# Altium footprint library Allegro - Packages.PcbLib: 2 footprints
Each footprint in its own frame and in the unit in brackets; x right, y up, seen from the top. Pads: shape width x height; smd on the part's side, far side on the other; paste and mask are expansions set on the pad; w line width, h text height; cw(c..) or ccw(c..) is an arc to the next point about the centre after c.
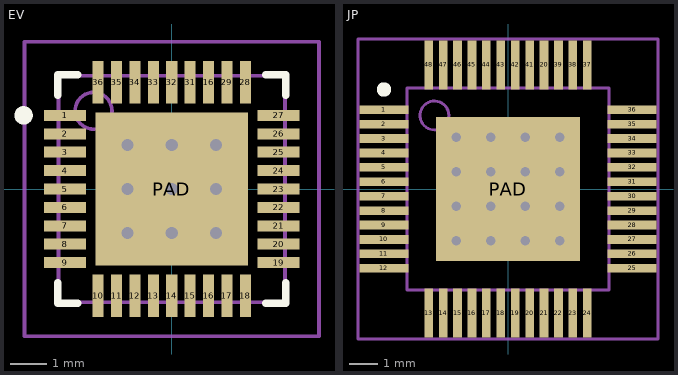
[diagram p0: the footprints below, top view; thin cyan lines are the x and y axes]

## EV [mm] "QFN, 36-Leads, exposed thermal pad"
height 1
pads (37):
  rect 1.15x0.3 smd: 1(-2.9,2) 2(-2.9,1.5) 3(-2.9,1) 4(-2.9,0.5) 5(-2.9,0) 6(-2.9,-0.5) 7(-2.9,-1) 8(-2.9,-1.5) 9(-2.9,-2) 19(2.9,-2) 20(2.9,-1.5) 21(2.9,-1) 22(2.9,-0.5) 23(2.9,0) 24(2.9,0.5) 25(2.9,1) 26(2.9,1.5) 27(2.9,2)
  rect 0.3x1.15 smd: 10(-2,-2.9) 11(-1.5,-2.9) 12(-1,-2.9) 13(-0.5,-2.9) 14(0,-2.9) 15(0.5,-2.9) 16(1,-2.9) 16(1,2.9) 17(1.5,-2.9) 18(2,-2.9) 28(2,2.9) 29(1.5,2.9) 31(0.5,2.9) 32(0,2.9) 33(-0.5,2.9) 34(-1,2.9) 35(-1.5,2.9) 36(-2,2.9)
  rect 4.15x4.15 smd: PAD(0,0)
via -1.2,1.2 diameter 0.66 hole 0.33
via 0,1.2 diameter 0.66 hole 0.33
via 1.2,1.2 diameter 0.66 hole 0.33
via -1.2,0 diameter 0.66 hole 0.33
via 0,0 diameter 0.66 hole 0.33
via 1.2,0 diameter 0.66 hole 0.33
via -1.2,-1.2 diameter 0.66 hole 0.33
via 0,-1.2 diameter 0.66 hole 0.33
via 1.2,-1.2 diameter 0.66 hole 0.33
Top Overlay:
  circle w0.25: c-4.025,2 r0.125
  lines w0.2: -3.1,-2.55 -3.1,-3.1 -2.55,-3.1 ; -3.1,2.55 -3.1,3.1 -2.55,3.1 ; 2.55,-3.1 3.1,-3.1 3.1,-2.55 ; 2.55,3.1 3.1,3.1 3.1,2.55
Mechanical 13:
  circle w0.1: c-2.125,2.125 r0.5
  lines w0.1: -3.075,-3.075 -3.075,3.075 3.075,3.075 3.075,-3.075 -3.075,-3.075
Mechanical 15:
  lines w0.1: -0.5,0 0.5,0 ; 0,-0.5 0,0.5 ; -4,-4 -4,4 4,4 4,-4 -4,-4
3D body: height 1, standoff 0.01, extent -3.075,-3.075 3.075,3.075

## JP [mm] "LQFP, 48-Leads, Body 9.2x9.2mm (max), Pitch 0.50mm, IPC Medium Density"
height 1.6
pads (49):
  rect 1.7x0.3 smd: 1(-4.3,2.75) 2(-4.3,2.25) 3(-4.3,1.75) 4(-4.3,1.25) 5(-4.3,0.75) 6(-4.3,0.25) 7(-4.3,-0.25) 8(-4.3,-0.75) 9(-4.3,-1.25) 10(-4.3,-1.75) 11(-4.3,-2.25) 12(-4.3,-2.75) 25(4.3,-2.75) 26(4.3,-2.25) 27(4.3,-1.75) 28(4.3,-1.25) 29(4.3,-0.75) 30(4.3,-0.25) 31(4.3,0.25) 32(4.3,0.75) 33(4.3,1.25) 34(4.3,1.75) 35(4.3,2.25) 36(4.3,2.75)
  rect 0.3x1.7 smd: 13(-2.75,-4.3) 14(-2.25,-4.3) 15(-1.75,-4.3) 16(-1.25,-4.3) 17(-0.75,-4.3) 18(-0.25,-4.3) 19(0.25,-4.3) 20(0.75,-4.3) 20(1.25,4.3) 21(1.25,-4.3) 22(1.75,-4.3) 23(2.25,-4.3) 24(2.75,-4.3) 37(2.75,4.3) 38(2.25,4.3) 39(1.75,4.3) 41(0.75,4.3) 42(0.25,4.3) 43(-0.25,4.3) 44(-0.75,4.3) 45(-1.25,4.3) 46(-1.75,4.3) 47(-2.25,4.3) 48(-2.75,4.3)
  rect 5x5 smd: PAD(0,0)
via -1.8,1.8 diameter 0.66 hole 0.33
via -0.6,1.8 diameter 0.66 hole 0.33
via 0.6,1.8 diameter 0.66 hole 0.33
via 1.8,1.8 diameter 0.66 hole 0.33
via -1.8,0.6 diameter 0.66 hole 0.33
via -0.6,0.6 diameter 0.66 hole 0.33
via 0.6,0.6 diameter 0.66 hole 0.33
via 1.8,0.6 diameter 0.66 hole 0.33
via -1.8,-0.6 diameter 0.66 hole 0.33
via -0.6,-0.6 diameter 0.66 hole 0.33
via 0.6,-0.6 diameter 0.66 hole 0.33
via 1.8,-0.6 diameter 0.66 hole 0.33
via -1.8,-1.8 diameter 0.66 hole 0.33
via -0.6,-1.8 diameter 0.66 hole 0.33
via 0.6,-1.8 diameter 0.66 hole 0.33
via 1.8,-1.8 diameter 0.66 hole 0.33
Top Overlay:
  circle w0.25: c-4.3,3.45 r0.125
Mechanical 13:
  circle w0.1: c-2.55,2.55 r0.5
  lines w0.1: -3.5,-3.5 -3.5,3.5 3.5,3.5 3.5,-3.5 -3.5,-3.5
Mechanical 15:
  lines w0.1: -0.5,0 0.5,0 ; 0,-0.5 0,0.5 ; -5.2,-5.2 -5.2,5.2 5.2,5.2 5.2,-5.2 -5.2,-5.2
3D body: height 1.6, standoff 0.05, extent -3.5,-3.5 3.5,3.5